# EAGLE library part 6P_HEADER (library TRISThisConnectors)
Buchanan 282834-6
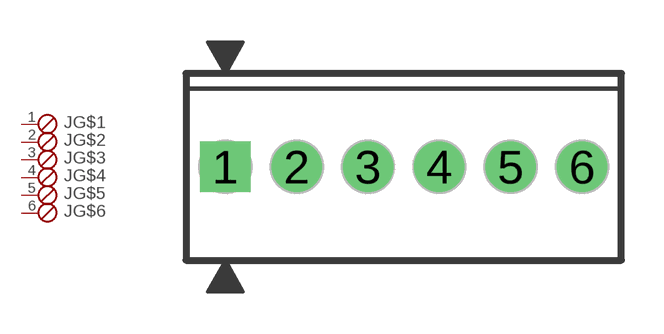
[diagram p0: symbol with the pads of 6POL254; footprint 6POL254]

Designator prefix J; gates G$1=SKB G$2=SKB G$3=SKB G$4=SKB G$5=SKB G$6=SKB

## 6P_HEADER  [6POL254]
1  G$1:1  pas
2  G$2:1  pas
3  G$3:1  pas
4  G$4:1  pas
5  G$5:1  pas
6  G$6:1  pas

## Footprint 6POL254 (pad centres in mm)
drill 1.2 square: 1 -6.35,0
drill 1.2 round: 2 -3.81,0; 3 -1.27,0; 4 1.27,0; 5 3.81,0; 6 6.35,0